# EAGLE library part MICROSD_CARD (library anasoft)
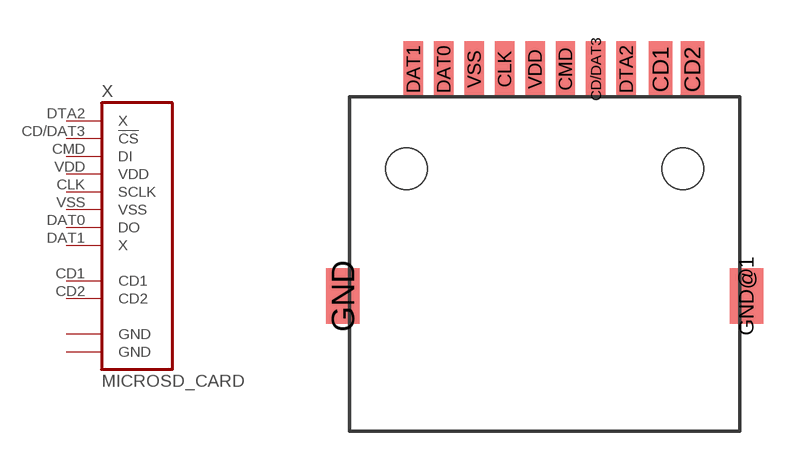
[diagram p6: symbol with the pads of MICROSD_112I-TDAR-R; footprint MICROSD_112I-TDAR-R]

Designator prefix X

## MICROSD_CARD-112I-TDAR-R  [MICROSD_112I-TDAR-R]
CD1  CD1
CD2  CD2
CD/DAT3  !CS  in
CLK  SCLK  in
CMD  DI  in
DAT0  DO  out
DAT1  X
DTA2  X
GND  GND  pwr
GND@1  GND  pwr
VDD  VDD  pwr
VSS  VSS  pwr

## Footprint MICROSD_112I-TDAR-R (pad centres in mm)
smd 0.85 x 2: CD1 4.2,1; CD2 5.35,1
smd 0.7 x 2: CD/DAT3 1.85,1; CLK -1.45,1; CMD 0.75,1; DAT0 -3.65,1; DAT1 -4.75,1; DTA2 2.95,1; VDD -0.35,1; VSS -2.55,1
smd 1.2 x 2: GND -7.3,-7.2; GND@1 7.3,-7.2
hole 1.5 at -5,-2.6
hole 1.5 at 5,-2.6